# EAGLE library part NCP3065 (library dword1511-pmic-dcdc)
1.5A 150KHz switching regulators for LED
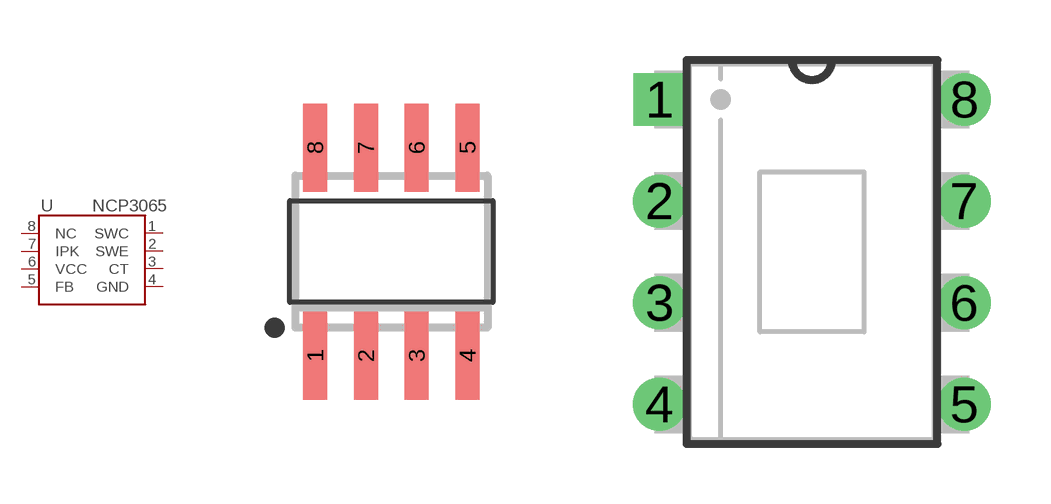
[diagram p13: symbol with the pads of SOIC-8; footprints SOIC-8, DIP-8]

Designator prefix U

## NCP3065DR  [SOIC-8]
1  SWC
2  SWE
3  CT  out
4  GND  pwr
5  FB  in
6  VCC  pwr
7  IPK  in
8  NC  nc

## NCP3065P  [DIP-8]
Pads as for SOIC-8

## Footprint SOIC-8 (pad centres in mm)
smd 0.6 x 2.2: 1 -1.905,-2.6; 2 -0.635,-2.6; 3 0.635,-2.6; 4 1.905,-2.6; 5 1.905,2.6; 6 0.635,2.6; 7 -0.635,2.6; 8 -1.905,2.6

## Footprint DIP-8 (pad centres in mm)
drill 0.813 pad 1.143 square: 1 -3.81,3.81
drill 0.813 pad 1.143: 2 -3.81,1.27; 3 -3.81,-1.27; 4 -3.81,-3.81; 5 3.81,-3.81; 6 3.81,-1.27; 7 3.81,1.27; 8 3.81,3.81